# Altium schematic symbol library Kingst51.SchLib: 22 symbols
Pins are listed as number, name and electrical type; pins without a type are passive.

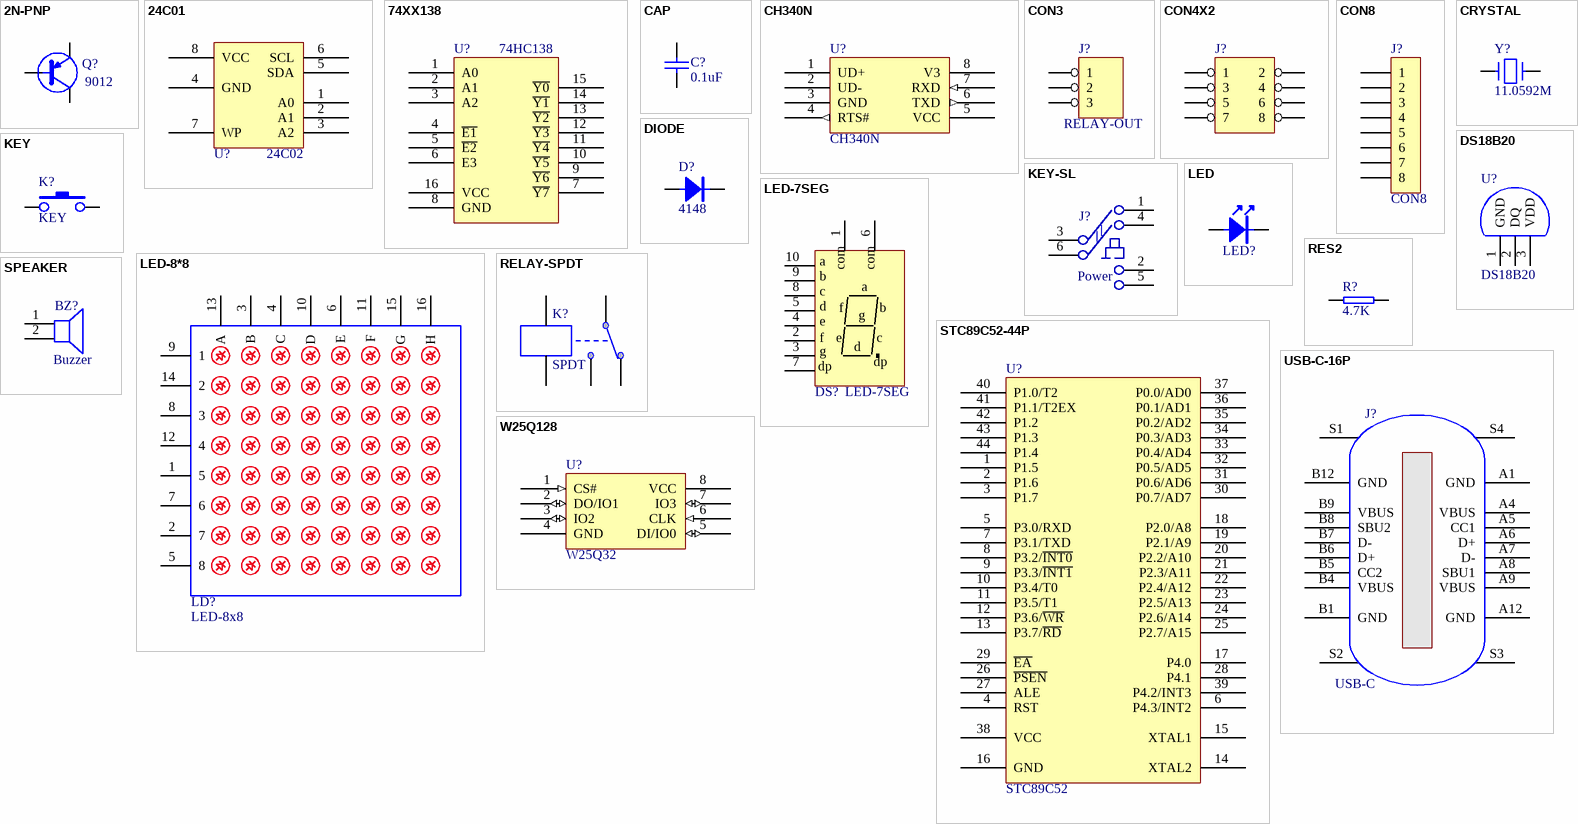
[diagram p0: symbols 2N-PNP to W25Q128]

## 2N-PNP
designator Q?, comment 9012
footprint TO-92
footprint SOT-23
footprint SOT-23-2N
footprint SOT-23-Q
pins: B, C, E

## 24C01
designator U?, comment 24C02
footprint SOP-8_3.9
footprint TSSOP8
footprint DIP8
pins: 1 A0, 2 A1, 3 A2, 4 GND, 5 SDA, 6 SCL, 7 WP, 8 VCC

## 74XX138
designator U?, comment 74HC138
footprint SOP-16_3.9
footprint DIP16
pins: 1 A0, 2 A1, 3 A2, 4 ~{E1}, 5 ~{E2}, 6 E3, 7 ~{Y7}, 8 GND, 9 ~{Y6}, 10 ~{Y5}, 11 ~{Y4}, 12 ~{Y3}, 13 ~{Y2}, 14 ~{Y1}, 15 ~{Y0}, 16 VCC

## CAP
designator C?, comment 0.1uF
footprint 0603C
footprint 0805C
footprint 1206C
footprint RAD-0.2
pins: 1, 2

## CH340N
designator U?
USB to UART Bridge Controller
footprint SOP-8_3.9
pins: 1 UD+, 2 UD-, 3 GND, 4 RTS# (out), 5 VCC, 6 TXD (out), 7 RXD (in), 8 V3
2 alternate drawings of the same symbol

## CON3
designator J?, comment RELAY-OUT
Connector 3p
footprint P5.08-3P
pins: 1, 2, 3
2 alternate drawings of the same symbol

## CON4X2
designator J?  (value not drawn)
Connector 4*2p
footprint IDC4X2-M (Footprint not found)
pins: 1, 2, 3, 4, 5, 6, 7, 8
2 alternate drawings of the same symbol

## CON8
designator J?
Connector
footprint SIP8
pins: 1, 2, 3, 4, 5, 6, 7, 8

## CRYSTAL
designator Y?, comment 11.0592M
Crystal
footprint SMD-3225-4P
pins: 1, 3
2 alternate drawings of the same symbol

## DIODE
designator D?, comment 4148
DIODE
footprint SOD-80 (SMD Diode)
footprint SOD-123
pins: A 1, K 2
2 alternate drawings of the same symbol

## DS18B20
designator U?
footprint TO-92
pins: 1 GND, 2 DQ, 3 VDD

## KEY
designator K?
footprint KEY-1
footprint KEY-6*6
footprint KEY-6X6
pins: 1, 2

## KEY-SL
designator J?, comment Power
Self-locking button
pins: 1, 2, 3, 4, 5, 6
2 alternate drawings of the same symbol

## LED
designator LED?  (value not drawn)
footprint D0805
footprint LED-1
footprint 0805LD
pins: A 1, K 2

## LED-7SEG
designator DS?
Seven-Segment Display, Right Hand Decimal
footprint LED-C7
pins: 1 com, 2 f, 3 g, 4 e, 5 d, 6 com, 7 dp, 8 c, 9 b, 10 a

## LED-8*8
designator LD?, comment LED-8x8
footprint LED-8*8
pins: 1 5, 2 7, 3 B, 4 C, 5 8, 6 E, 7 6, 8 3, 9 1, 10 D, 11 F, 12 4, 13 A, 14 2, 15 G, 16 H

## RELAY-SPDT
designator K?, comment SPDT
footprint RELAY-SPDT
pins: C1, C2, COM, NC, NO

## RES2
designator R?, comment 4.7K
footprint 0603
footprint 0805
footprint 1206
footprint AXIAL-0.4
footprint 0603R
pins: 1, 2

## SPEAKER
designator BZ?, comment Buzzer
footprint BUZZ-D12
pins: 1, 2

## STC89C52-44P
designator U?, comment STC89C52
STC89C52 LQFP44
footprint LQFP44_0.8 (LQFP, 44-Leads, Body 10x10mm, Pitch 0.8mm)
pins: 1 P1.5, 2 P1.6, 3 P1.7, 4 RST, 5 P3.0/RXD, 6 P4.3/INT2, 7 P3.1/TXD, 8 P3.2/~{INT0}, 9 P3.3/~{INT1}, 10 P3.4/T0, 11 P3.5/T1, 12 P3.6/~{WR}, 13 P3.7/~{RD}, 14 XTAL2, 15 XTAL1, 16 GND, 17 P4.0, 18 P2.0/A8, 19 P2.1/A9, 20 P2.2/A10, 21 P2.3/A11, 22 P2.4/A12, 23 P2.5/A13, 24 P2.6/A14, 25 P2.7/A15, 26 ~{PSEN}, 27 ALE, 28 P4.1, 29 ~{EA}, 30 P0.7/AD7, 31 P0.6/AD6, 32 P0.5/AD5, 33 P0.4/AD4, 34 P0.3/AD3, 35 P0.2/AD2, 36 P0.1/AD1, 37 P0.0/AD0, 38 VCC, 39 P4.2/INT3, 40 P1.0/T2, 41 P1.1/T2EX, 42 P1.2, 43 P1.3, 44 P1.4

## USB-C-16P
designator J?, comment USB-C
USB Type-C 16P 型插座
footprint USB-C-16P (Footprint not found)
pins: A1 GND, A4 VBUS, A5 CC1, A6 D+, A7 D-, A8 SBU1, A9 VBUS, A12 GND, B1 GND, B4 VBUS, B5 CC2, B6 D+, B7 D-, B8 SBU2, B9 VBUS, B12 GND, S1 SH, S2 SH, S3 SH, S4 SH
2 alternate drawings of the same symbol

## W25Q128
designator U?, comment W25Q32
SPI Serial Flash
footprint SOP-8_5.3
pins: 1 CS# (in), 2 DO/IO1 (io), 3 IO2 (io), 4 GND (power), 5 DI/IO0 (io), 6 CLK (in), 7 IO3 (io), 8 VCC (power)
2 alternate drawings of the same symbol